# Altium integrated library NSC ADC.IntLib: 493 symbols (part 14 of 17)
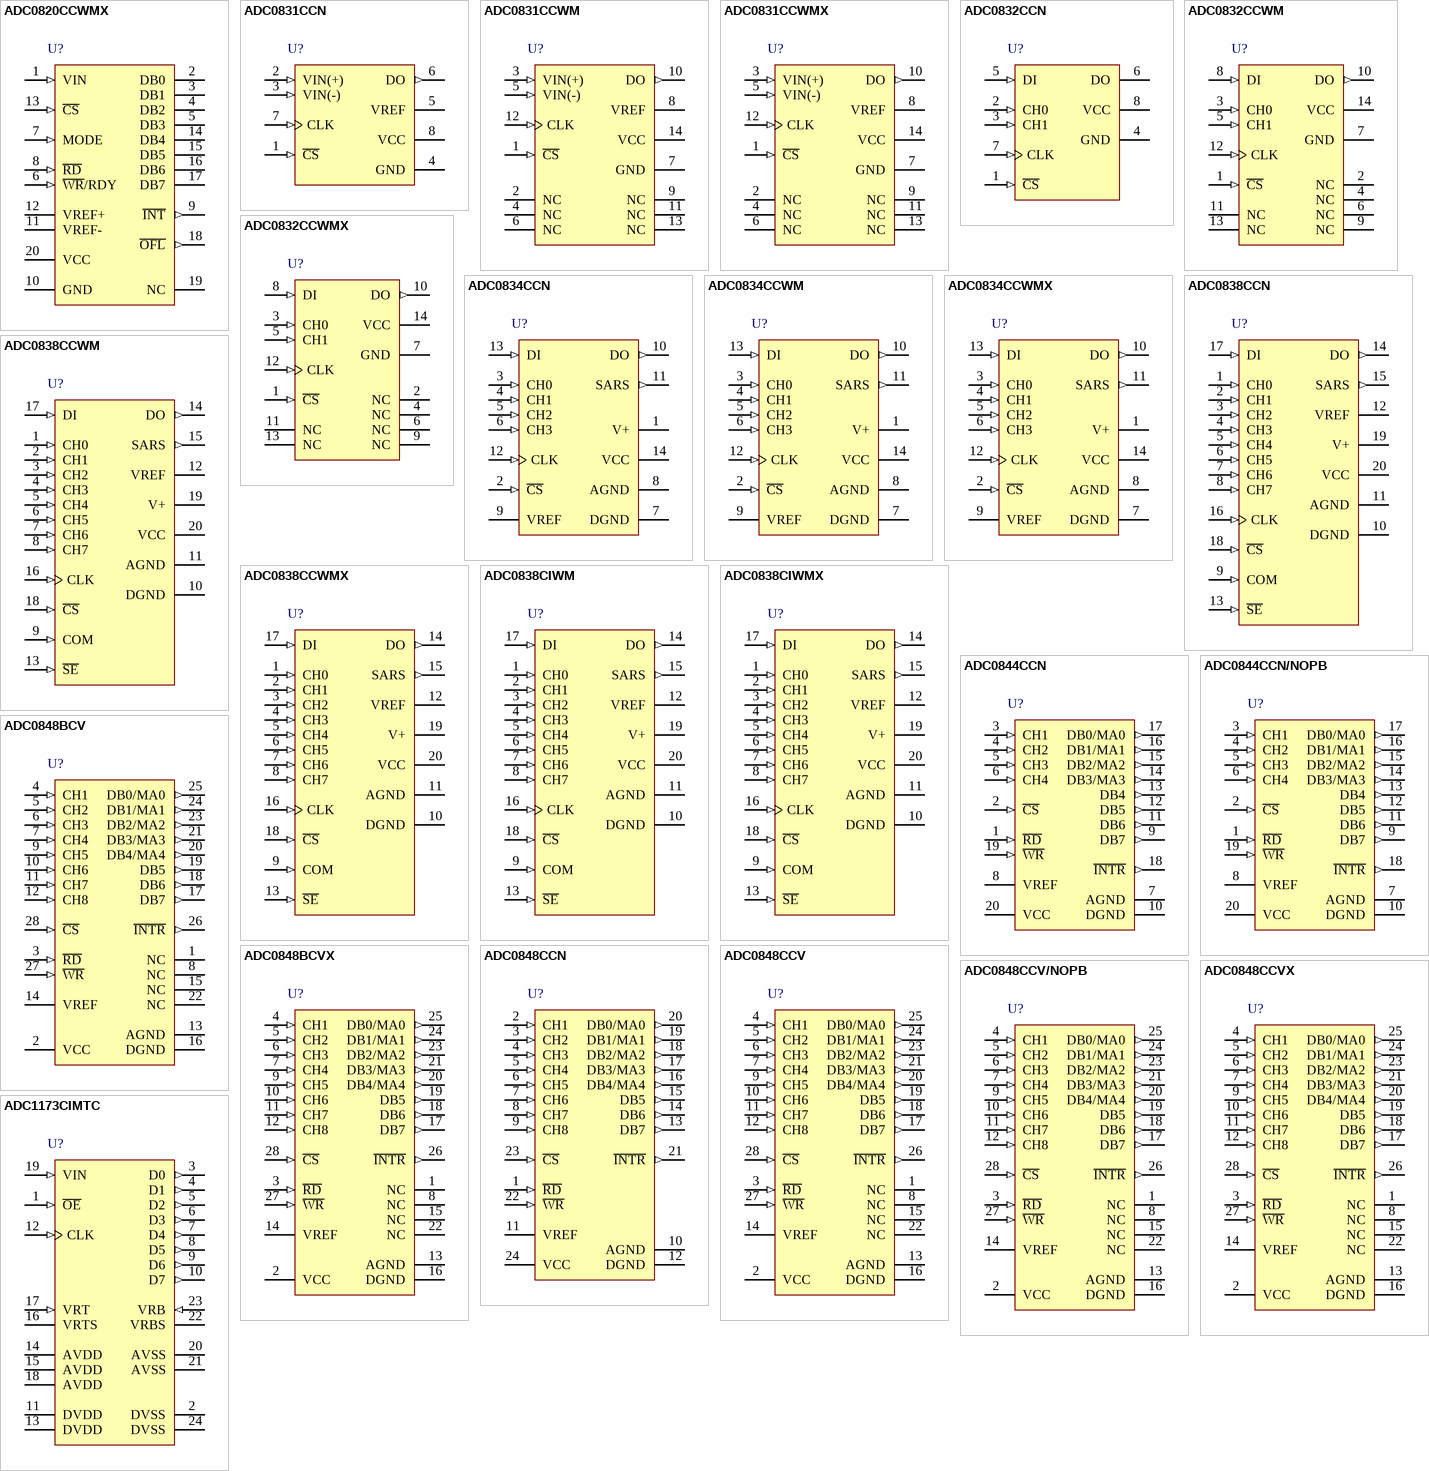
[diagram p49: symbols ADC0820CCWMX to ADC1173CIMTC]

## ADC0832CCWMX
designator U?
8-Bit Serial I/O A/D Converter with Multiplexer Option, 14-pin Wide SOIC; PartNumber: ADC0832CCWMX; Manufacturer: National Semiconductor; PackageTopMarking: NSUZXYTTE#*ADC0832*CCWM; PowerWise: N; CompType: ADC IC; Published: 1-Mar-2010; DatasheetVersion: Aug-1994; PackageVersion: revD, Feb-1987; PackageReference: M14B; Publisher: Altium Limited; PackageDescription: Molded Package, S.O., .300in Wide, 14 Lead; RoHS: N; PinCount: 14; Code_JEDEC: MS-013-AF; Code_IPC: SOIC127P1030-14; ComponentLink1Description: ADC0832 Datasheet; ComponentLink1URL: http://www.national.com/ds/AD/ADC0832.pdf; ComponentLink2Description: ADC0832 Web Page; ComponentLink2URL: http://www.national.com/pf/AD/ADC0832.html; ComponentLink3Description: M14B Package Page; ComponentLink3URL: http://www.national.com/packaging/folders/m14b.html
footprint M14B_N (SOIC, 14-Leads, Body 9x7.5mm, Pitch 1.27mm, IPC Medium Density)
footprint M14B_L (SOIC, 14-Leads, Body 9x7.5mm, Pitch 1.27mm, IPC High Density)
footprint M14B_M (SOIC, 14-Leads, Body 9x7.5mm, Pitch 1.27mm, IPC Low Density)
pins: 1 ~{CS} (in), 2 NC, 3 CH0 (in), 4 NC, 5 CH1 (in), 6 NC, 7 GND (power), 8 DI (in), 9 NC, 10 DO (out), 11 NC, 12 CLK (in), 13 NC, 14 VCC (power)

## ADC0834CCN
designator U?
8-Bit Serial I/O A/D Converter with Multiplexer Option, 14-pin MDIP; PartNumber: ADC0834CCN; Manufacturer: National Semiconductor; PackageTopMarking: NSUZXYYTTE#*ADC0834CCN; PowerWise: N; CompType: ADC IC; Published: 4-Dec-2008; DatasheetVersion: Sep-1992; PackageVersion: revG, May-2006; PackageReference: N14A; Publisher: Altium Limited; PackageDescription: MDIP, .750 x .250 x.130in, 14 Lead, .100in Pitch; RoHS: N; PinCount: 14; Code_JEDEC: MS-001-AA; ComponentLink1Description: ADC0834 Datasheet; ComponentLink1URL: http://www.national.com/ds/AD/ADC0834.pdf; ComponentLink2Description: ADC0834 Web Page; ComponentLink2URL: http://www.national.com/pf/AD/ADC0834.html; ComponentLink3Description: N14A Package Page; ComponentLink3URL: http://www.national.com/packaging/folders/n14a.html
footprint N14A (DIP, 14-Leads, Row Spacing 7.62mm, Pitch 2.54mm, Body 19.56x6.35mm)
pins: 1 V+ (power), 2 ~{CS} (in), 3 CH0 (in), 4 CH1 (in), 5 CH2 (in), 6 CH3 (in), 7 DGND (power), 8 AGND (power), 9 VREF (power), 10 DO (out), 11 SARS (out), 12 CLK (in), 13 DI (in), 14 VCC (power)

## ADC0834CCWM
designator U?
8-Bit Serial I/O A/D Converter with Multiplexer Option, 14-pin Wide SOIC; PartNumber: ADC0834CCWM; Manufacturer: National Semiconductor; PackageTopMarking: NSUZXYTTE#*ADC0834*CCWM; PowerWise: N; CompType: ADC IC; Published: 4-Dec-2008; DatasheetVersion: Sep-1992; PackageVersion: revD, Feb-1987; PackageReference: M14B; Publisher: Altium Limited; PackageDescription: Molded Package, S.O., .300in Wide, 14 Lead; RoHS: N; PinCount: 14; Code_JEDEC: MS-013-AF; Code_IPC: SOIC127P1030-14; ComponentLink1Description: ADC0834 Datasheet; ComponentLink1URL: http://www.national.com/ds/AD/ADC0834.pdf; ComponentLink2Description: ADC0834 Web Page; ComponentLink2URL: http://www.national.com/pf/AD/ADC0834.html; ComponentLink3Description: M14B Package Page; ComponentLink3URL: http://www.national.com/packaging/folders/m14b.html
footprint M14B_N (SOIC, 14-Leads, Body 9x7.5mm, Pitch 1.27mm, IPC Medium Density)
footprint M14B_L (SOIC, 14-Leads, Body 9x7.5mm, Pitch 1.27mm, IPC High Density)
footprint M14B_M (SOIC, 14-Leads, Body 9x7.5mm, Pitch 1.27mm, IPC Low Density)
pins: 1 V+ (power), 2 ~{CS} (in), 3 CH0 (in), 4 CH1 (in), 5 CH2 (in), 6 CH3 (in), 7 DGND (power), 8 AGND (power), 9 VREF (power), 10 DO (out), 11 SARS (out), 12 CLK (in), 13 DI (in), 14 VCC (power)

## ADC0834CCWMX
designator U?
8-Bit Serial I/O A/D Converter with Multiplexer Option, 14-pin Wide SOIC; PartNumber: ADC0834CCWMX; Manufacturer: National Semiconductor; PackageTopMarking: NSUZXYTTE#*ADC0834*CCWM; PowerWise: N; CompType: ADC IC; Published: 1-Mar-2010; DatasheetVersion: Sep-1992; PackageVersion: revD, Feb-1987; PackageReference: M14B; Publisher: Altium Limited; PackageDescription: Molded Package, S.O., .300in Wide, 14 Lead; RoHS: N; PinCount: 14; Code_JEDEC: MS-013-AF; Code_IPC: SOIC127P1030-14; ComponentLink1Description: ADC0834 Datasheet; ComponentLink1URL: http://www.national.com/ds/AD/ADC0834.pdf; ComponentLink2Description: ADC0834 Web Page; ComponentLink2URL: http://www.national.com/pf/AD/ADC0834.html; ComponentLink3Description: M14B Package Page; ComponentLink3URL: http://www.national.com/packaging/folders/m14b.html
footprint M14B_N (SOIC, 14-Leads, Body 9x7.5mm, Pitch 1.27mm, IPC Medium Density)
footprint M14B_L (SOIC, 14-Leads, Body 9x7.5mm, Pitch 1.27mm, IPC High Density)
footprint M14B_M (SOIC, 14-Leads, Body 9x7.5mm, Pitch 1.27mm, IPC Low Density)
pins: 1 V+ (power), 2 ~{CS} (in), 3 CH0 (in), 4 CH1 (in), 5 CH2 (in), 6 CH3 (in), 7 DGND (power), 8 AGND (power), 9 VREF (power), 10 DO (out), 11 SARS (out), 12 CLK (in), 13 DI (in), 14 VCC (power)

## ADC0838CCN
designator U?
8-Bit Serial I/O A/D Converter with Multiplexer Option, 20-pin MDIP; PartNumber: ADC0838CCN; Manufacturer: National Semiconductor; PackageTopMarking: NSUZXYYTTE#*ADC0838CCN; PowerWise: N; CompType: ADC IC; Published: 4-Dec-2008; DatasheetVersion: Sep-1992; PackageVersion: revG, Nov-1984; PackageReference: N20A; Publisher: Altium Limited; PackageDescription: Molded Dip (N) 20 Lead; Supplier 1: Farnell; Supplier Part Number 1: 9486615; RoHS: N; PinCount: 20; Code_JEDEC: MS-001-AD; ComponentLink1Description: ADC0838 Datasheet; ComponentLink1URL: http://www.national.com/ds/AD/ADC0838.pdf; ComponentLink2Description: ADC0838 Web Page; ComponentLink2URL: http://www.national.com/pf/AD/ADC0838.html; ComponentLink3Description: N20A Package Page; ComponentLink3URL: http://www.national.com/packaging/folders/n20a.html
footprint N20A (DIP, 20-Leads, Row Spacing 7.62mm, Pitch 2.54mm, Body 26.07x6.6mm)
pins: 1 CH0 (in), 2 CH1 (in), 3 CH2 (in), 4 CH3 (in), 5 CH4 (in), 6 CH5 (in), 7 CH6 (in), 8 CH7 (in), 9 COM (in), 10 DGND (power), 11 AGND (power), 12 VREF (power), 13 ~{SE} (in), 14 DO (out), 15 SARS (out), 16 CLK (in), 17 DI (in), 18 ~{CS} (in), 19 V+ (power), 20 VCC (power)

## ADC0838CCWM
designator U?
8-Bit Serial I/O A/D Converter with Multiplexer Option, 20-pin Wide SOIC; PartNumber: ADC0838CCWM; Manufacturer: National Semiconductor; PackageTopMarking: NSUZXYTTE#*ADC0838*CCWM; PowerWise: N; CompType: ADC IC; Published: 4-Dec-2008; DatasheetVersion: Sep-1992; PackageVersion: revG, Jan-1996; PackageReference: M20B; Publisher: Altium Limited; PackageDescription: Molded Package, S0, .300in Wide, 20 Lead; RoHS: N; PinCount: 20; Code_JEDEC: MS-013-AC; Code_IPC: SOIC127P1030-20; ComponentLink1Description: ADC0838 Datasheet; ComponentLink1URL: http://www.national.com/ds/AD/ADC0838.pdf; ComponentLink2Description: ADC0838 Web Page; ComponentLink2URL: http://www.national.com/pf/AD/ADC0838.html; ComponentLink3Description: M20B Package Page; ComponentLink3URL: http://www.national.com/packaging/folders/m20b.html
footprint M20B_N (SOIC, 20-Leads, Body 12.8x7.5mm, Pitch 1.27mm, IPC Medium Density)
footprint M20B_L (SOIC, 20-Leads, Body 12.8x7.5mm, Pitch 1.27mm, IPC High Density)
footprint M20B_M (SOIC, 20-Leads, Body 12.8x7.5mm, Pitch 1.27mm, IPC Low Density)
pins: 1 CH0 (in), 2 CH1 (in), 3 CH2 (in), 4 CH3 (in), 5 CH4 (in), 6 CH5 (in), 7 CH6 (in), 8 CH7 (in), 9 COM (in), 10 DGND (power), 11 AGND (power), 12 VREF (power), 13 ~{SE} (in), 14 DO (out), 15 SARS (out), 16 CLK (in), 17 DI (in), 18 ~{CS} (in), 19 V+ (power), 20 VCC (power)

## ADC0838CCWMX
designator U?
8-Bit Serial I/O A/D Converter with Multiplexer Option, 20-pin Wide SOIC; PartNumber: ADC0838CCWMX; Manufacturer: National Semiconductor; PackageTopMarking: NSUZXYTTE#*ADC0838*CCWM; PowerWise: N; CompType: ADC IC; Published: 1-Mar-2010; DatasheetVersion: Sep-1992; PackageVersion: revG, Jan-1996; PackageReference: M20B; Publisher: Altium Limited; PackageDescription: Molded Package, S0, .300in Wide, 20 Lead; RoHS: N; PinCount: 20; Code_JEDEC: MS-013-AC; Code_IPC: SOIC127P1030-20; ComponentLink1Description: ADC0838 Datasheet; ComponentLink1URL: http://www.national.com/ds/AD/ADC0838.pdf; ComponentLink2Description: ADC0838 Web Page; ComponentLink2URL: http://www.national.com/pf/AD/ADC0838.html; ComponentLink3Description: M20B Package Page; ComponentLink3URL: http://www.national.com/packaging/folders/m20b.html
footprint M20B_N (SOIC, 20-Leads, Body 12.8x7.5mm, Pitch 1.27mm, IPC Medium Density)
footprint M20B_L (SOIC, 20-Leads, Body 12.8x7.5mm, Pitch 1.27mm, IPC High Density)
footprint M20B_M (SOIC, 20-Leads, Body 12.8x7.5mm, Pitch 1.27mm, IPC Low Density)
pins: 1 CH0 (in), 2 CH1 (in), 3 CH2 (in), 4 CH3 (in), 5 CH4 (in), 6 CH5 (in), 7 CH6 (in), 8 CH7 (in), 9 COM (in), 10 DGND (power), 11 AGND (power), 12 VREF (power), 13 ~{SE} (in), 14 DO (out), 15 SARS (out), 16 CLK (in), 17 DI (in), 18 ~{CS} (in), 19 V+ (power), 20 VCC (power)

## ADC0838CIWM
designator U?
8-Bit Serial I/O A/D Converter with Multiplexer Option, 20-pin Wide SOIC; PartNumber: ADC0838CIWM; Manufacturer: National Semiconductor; PackageTopMarking: NSUZXYTTE#*ADC0838*CIWM; PowerWise: N; CompType: ADC IC; Published: 4-Dec-2008; DatasheetVersion: Jan-1994; PackageVersion: revG, Jan-1996; PackageReference: M20B; Publisher: Altium Limited; PackageDescription: Molded Package, S0, .300in Wide, 20 Lead; RoHS: N; PinCount: 20; Code_JEDEC: MS-013-AC; Code_IPC: SOIC127P1030-20; ComponentLink1Description: ADC0838 Datasheet; ComponentLink1URL: http://www.national.com/ds/AD/ADC0838.pdf; ComponentLink2Description: ADC0838 Web Page; ComponentLink2URL: http://www.national.com/pf/AD/ADC0838.html; ComponentLink3Description: M20B Package Page; ComponentLink3URL: http://www.national.com/packaging/folders/m20b.html
footprint M20B_N (SOIC, 20-Leads, Body 12.8x7.5mm, Pitch 1.27mm, IPC Medium Density)
footprint M20B_L (SOIC, 20-Leads, Body 12.8x7.5mm, Pitch 1.27mm, IPC High Density)
footprint M20B_M (SOIC, 20-Leads, Body 12.8x7.5mm, Pitch 1.27mm, IPC Low Density)
pins: 1 CH0 (in), 2 CH1 (in), 3 CH2 (in), 4 CH3 (in), 5 CH4 (in), 6 CH5 (in), 7 CH6 (in), 8 CH7 (in), 9 COM (in), 10 DGND (power), 11 AGND (power), 12 VREF (power), 13 ~{SE} (in), 14 DO (out), 15 SARS (out), 16 CLK (in), 17 DI (in), 18 ~{CS} (in), 19 V+ (power), 20 VCC (power)

## ADC0838CIWMX
designator U?
8-Bit Serial I/O A/D Converter with Multiplexer Option, 20-pin Wide SOIC; PartNumber: ADC0838CIWMX; Manufacturer: National Semiconductor; PackageTopMarking: NSUZXYTTE#*ADC0838*CIWM; PowerWise: N; CompType: ADC IC; Published: 1-Mar-2010; DatasheetVersion: Jan-1994; PackageVersion: revG, Jan-1996; PackageReference: M20B; Publisher: Altium Limited; PackageDescription: Molded Package, S0, .300in Wide, 20 Lead; RoHS: N; PinCount: 20; Code_JEDEC: MS-013-AC; Code_IPC: SOIC127P1030-20; ComponentLink1Description: ADC0838 Datasheet; ComponentLink1URL: http://www.national.com/ds/AD/ADC0838.pdf; ComponentLink2Description: ADC0838 Web Page; ComponentLink2URL: http://www.national.com/pf/AD/ADC0838.html; ComponentLink3Description: M20B Package Page; ComponentLink3URL: http://www.national.com/packaging/folders/m20b.html
footprint M20B_N (SOIC, 20-Leads, Body 12.8x7.5mm, Pitch 1.27mm, IPC Medium Density)
footprint M20B_L (SOIC, 20-Leads, Body 12.8x7.5mm, Pitch 1.27mm, IPC High Density)
footprint M20B_M (SOIC, 20-Leads, Body 12.8x7.5mm, Pitch 1.27mm, IPC Low Density)
pins: 1 CH0 (in), 2 CH1 (in), 3 CH2 (in), 4 CH3 (in), 5 CH4 (in), 6 CH5 (in), 7 CH6 (in), 8 CH7 (in), 9 COM (in), 10 DGND (power), 11 AGND (power), 12 VREF (power), 13 ~{SE} (in), 14 DO (out), 15 SARS (out), 16 CLK (in), 17 DI (in), 18 ~{CS} (in), 19 V+ (power), 20 VCC (power)

## ADC0844CCN
designator U?
8-Bit Microprocessor Compatible A/D Converter with Multiplexer Option, 20-pin MDIP; PartNumber: ADC0844CCN; Manufacturer: National Semiconductor; PackageTopMarking: NSUZXYYTTE#*ADC0844CCN; PowerWise: N; CompType: ADC IC; Published: 4-Dec-2008; DatasheetVersion: Mar-2006; PackageVersion: revG, Nov-1984; PackageReference: N20A; Publisher: Altium Limited; PackageDescription: Molded Dip (N) 20 Lead; Supplier 1: Farnell; Supplier Part Number 1: 9486623; RoHS: N; PinCount: 20; Code_JEDEC: MS-001-AD; ComponentLink1Description: ADC0844 Datasheet; ComponentLink1URL: http://www.national.com/ds/AD/ADC0844.pdf; ComponentLink2Description: ADC0844 Web Page; ComponentLink2URL: http://www.national.com/pf/AD/ADC0844.html; ComponentLink3Description: N20A Package Page; ComponentLink3URL: http://www.national.com/packaging/folders/n20a.html
footprint N20A (DIP, 20-Leads, Row Spacing 7.62mm, Pitch 2.54mm, Body 26.07x6.6mm)
pins: 1 ~{RD} (in), 2 ~{CS} (in), 3 CH1 (in), 4 CH2 (in), 5 CH3 (in), 6 CH4 (in), 7 AGND (power), 8 VREF (power), 9 DB7 (out), 10 DGND (power), 11 DB6 (out), 12 DB5 (out), 13 DB4 (out), 14 DB3/MA3 (out), 15 DB2/MA2 (out), 16 DB1/MA1 (out), 17 DB0/MA0 (out), 18 ~{INTR} (out), 19 ~{WR} (in), 20 VCC (power)

## ADC0844CCN/NOPB
designator U?
8-Bit Microprocessor Compatible A/D Converter with Multiplexer Option, 20-pin MDIP, Pb-Free; PartNumber: ADC0844CCN/NOPB; Manufacturer: National Semiconductor; PackageTopMarking: NSUZXYYTTE#*ADC0844CCN; PowerWise: N; CompType: ADC IC; Published: 1-Mar-2010; DatasheetVersion: Mar-2006; PackageVersion: revG, Nov-1984; PackageReference: N20A; Publisher: Altium Limited; PackageDescription: Molded Dip (N) 20 Lead; Supplier 1: Digi-Key; Supplier Part Number 1: ADC0844CCN-ND; Supplier 2: Farnell; Supplier Part Number 2: 1311185; RoHS: Y; PinCount: 20; Code_JEDEC: MS-001-AD; ComponentLink1Description: ADC0844 Datasheet; ComponentLink1URL: http://www.national.com/ds/AD/ADC0844.pdf; ComponentLink2Description: ADC0844 Web Page; ComponentLink2URL: http://www.national.com/pf/AD/ADC0844.html; ComponentLink3Description: N20A Package Page; ComponentLink3URL: http://www.national.com/packaging/folders/n20a.html
footprint N20A (DIP, 20-Leads, Row Spacing 7.62mm, Pitch 2.54mm, Body 26.07x6.6mm)
pins: 1 ~{RD} (in), 2 ~{CS} (in), 3 CH1 (in), 4 CH2 (in), 5 CH3 (in), 6 CH4 (in), 7 AGND (power), 8 VREF (power), 9 DB7 (out), 10 DGND (power), 11 DB6 (out), 12 DB5 (out), 13 DB4 (out), 14 DB3/MA3 (out), 15 DB2/MA2 (out), 16 DB1/MA1 (out), 17 DB0/MA0 (out), 18 ~{INTR} (out), 19 ~{WR} (in), 20 VCC (power)

## ADC0848BCV
designator U?
8-Bit Microprocessor Compatible A/D Converter with Multiplexer Option, 28-pin PLCC; PartNumber: ADC0848BCV; Manufacturer: National Semiconductor; PackageTopMarking: NSUZXYYTTE#*ADC0848*BCV; PowerWise: N; CompType: ADC IC; Published: 4-Dec-2008; DatasheetVersion: Dec-2008; PackageVersion: revK, Dec-1993; PackageReference: V28A; Publisher: Altium Limited; PackageDescription: Plastic Chip Carrier, Sq., .050in Pitch, 28 Lead; Supplier 1: Digi-Key; Supplier Part Number 1: ADC0848BCV-ND; Supplier 2: Farnell; Supplier Part Number 2: 949840; RoHS: N; PinCount: 28; Code_IPC: PLCC-28; ComponentLink1Description: ADC0848 Datasheet; ComponentLink1URL: http://www.national.com/ds/AD/ADC0848.pdf; ComponentLink2Description: ADC0848 Web Page; ComponentLink2URL: http://www.national.com/pf/AD/ADC0848.html; ComponentLink3Description: V28A Package Page; ComponentLink3URL: http://www.national.com/packaging/folders/v28a.html
footprint V28A_N (Leaded Chip Carrier, 28-Leads, Body 11.5x11.5mm, Pitch 1.27mm, IPC Medium Density)
footprint V28A_L (Leaded Chip Carrier, 28-Leads, Body 11.5x11.5mm, Pitch 1.27mm, IPC High Density)
footprint V28A_M (Leaded Chip Carrier, 28-Leads, Body 11.5x11.5mm, Pitch 1.27mm, IPC Low Density)
pins: 1 NC, 2 VCC (power), 3 ~{RD} (in), 4 CH1 (in), 5 CH2 (in), 6 CH3 (in), 7 CH4 (in), 8 NC, 9 CH5 (in), 10 CH6 (in), 11 CH7 (in), 12 CH8 (in), 13 AGND (power), 14 VREF (power), 15 NC, 16 DGND (power), 17 DB7 (out), 18 DB6 (out), 19 DB5 (out), 20 DB4/MA4 (out), 21 DB3/MA3 (out), 22 NC, 23 DB2/MA2 (out), 24 DB1/MA1 (out), 25 DB0/MA0 (out), 26 ~{INTR} (out), 27 ~{WR} (in), 28 ~{CS} (in)

## ADC0848BCVX
designator U?
8-Bit Microprocessor Compatible A/D Converter with Multiplexer Option, 28-pin PLCC; PartNumber: ADC0848BCVX; Manufacturer: National Semiconductor; PackageTopMarking: NSUZXYYTTE#*ADC0848*BCV; PowerWise: N; CompType: ADC IC; Published: 1-Mar-2010; DatasheetVersion: Dec-2008; PackageVersion: revK, Dec-1993; PackageReference: V28A; Publisher: Altium Limited; PackageDescription: Plastic Chip Carrier, Sq., .050in Pitch, 28 Lead; Supplier 1: Digi-Key; Supplier Part Number 1: ADC0848BCVX-ND; RoHS: N; PinCount: 28; Code_IPC: PLCC-28; ComponentLink1Description: ADC0848 Datasheet; ComponentLink1URL: http://www.national.com/ds/AD/ADC0848.pdf; ComponentLink2Description: ADC0848 Web Page; ComponentLink2URL: http://www.national.com/pf/AD/ADC0848.html; ComponentLink3Description: V28A Package Page; ComponentLink3URL: http://www.national.com/packaging/folders/v28a.html
footprint V28A_N (Leaded Chip Carrier, 28-Leads, Body 11.5x11.5mm, Pitch 1.27mm, IPC Medium Density)
footprint V28A_L (Leaded Chip Carrier, 28-Leads, Body 11.5x11.5mm, Pitch 1.27mm, IPC High Density)
footprint V28A_M (Leaded Chip Carrier, 28-Leads, Body 11.5x11.5mm, Pitch 1.27mm, IPC Low Density)
pins: 1 NC, 2 VCC (power), 3 ~{RD} (in), 4 CH1 (in), 5 CH2 (in), 6 CH3 (in), 7 CH4 (in), 8 NC, 9 CH5 (in), 10 CH6 (in), 11 CH7 (in), 12 CH8 (in), 13 AGND (power), 14 VREF (power), 15 NC, 16 DGND (power), 17 DB7 (out), 18 DB6 (out), 19 DB5 (out), 20 DB4/MA4 (out), 21 DB3/MA3 (out), 22 NC, 23 DB2/MA2 (out), 24 DB1/MA1 (out), 25 DB0/MA0 (out), 26 ~{INTR} (out), 27 ~{WR} (in), 28 ~{CS} (in)

## ADC0848CCN
designator U?
8-Bit Microprocessor Compatible A/D Converter with Multiplexer Option, 24-pin MDIP; PartNumber: ADC0848CCN; Manufacturer: National Semiconductor; PackageTopMarking: NSUZXYYTTE#*ADC0848CCN; PowerWise: N; CompType: ADC IC; Published: 4-Dec-2008; LatestRevisionDate: 13-Jan-2009; LatestRevisionNote: Package N24D replaced N24C.; DatasheetVersion: Dec-2008; PackageVersion: revB, Feb-1989; PackageReference: N24D; Publisher: Altium Limited; PackageDescription: Molded Dip (N), 24 Lead, .300in, Subcontractor Package; Supplier 1: Farnell; Supplier Part Number 1: 9486631; RoHS: N; PinCount: 24; Code_JEDEC: MS-001-AF; ComponentLink1Description: ADC0848 Datasheet; ComponentLink1URL: http://www.national.com/ds/AD/ADC0848.pdf; ComponentLink2Description: ADC0848 Web Page; ComponentLink2URL: http://www.national.com/pf/AD/ADC0848.html; ComponentLink3Description: N24D Package Page; ComponentLink3URL: http://www.national.com/packaging/folders/n24d.html
footprint N24D (DIP, 24-Leads, Row Spacing 7.62mm, Pitch 2.54mm, Body 32x6.6mm)
pins: 1 ~{RD} (in), 2 CH1 (in), 3 CH2 (in), 4 CH3 (in), 5 CH4 (in), 6 CH5 (in), 7 CH6 (in), 8 CH7 (in), 9 CH8 (in), 10 AGND (power), 11 VREF (power), 12 DGND (power), 13 DB7 (out), 14 DB6 (out), 15 DB5 (out), 16 DB4/MA4 (out), 17 DB3/MA3 (out), 18 DB2/MA2 (out), 19 DB1/MA1 (out), 20 DB0/MA0 (out), 21 ~{INTR} (out), 22 ~{WR} (in), 23 ~{CS} (in), 24 VCC (power)

## ADC0848CCV
designator U?
8-Bit Microprocessor Compatible A/D Converter with Multiplexer Option, 28-pin PLCC; PartNumber: ADC0848CCV; Manufacturer: National Semiconductor; PackageTopMarking: NSUZXYYTTE#*ADC0848*CCV; PowerWise: N; CompType: ADC IC; Published: 4-Dec-2008; DatasheetVersion: Dec-2008; PackageVersion: revK, Dec-1993; PackageReference: V28A; Publisher: Altium Limited; PackageDescription: Plastic Chip Carrier, Sq., .050in Pitch, 28 Lead; Supplier 1: Farnell; Supplier Part Number 1: 9494308; RoHS: N; PinCount: 28; Code_IPC: PLCC-28; ComponentLink1Description: ADC0848 Datasheet; ComponentLink1URL: http://www.national.com/ds/AD/ADC0848.pdf; ComponentLink2Description: ADC0848 Web Page; ComponentLink2URL: http://www.national.com/pf/AD/ADC0848.html; ComponentLink3Description: V28A Package Page; ComponentLink3URL: http://www.national.com/packaging/folders/v28a.html
footprint V28A_N (Leaded Chip Carrier, 28-Leads, Body 11.5x11.5mm, Pitch 1.27mm, IPC Medium Density)
footprint V28A_L (Leaded Chip Carrier, 28-Leads, Body 11.5x11.5mm, Pitch 1.27mm, IPC High Density)
footprint V28A_M (Leaded Chip Carrier, 28-Leads, Body 11.5x11.5mm, Pitch 1.27mm, IPC Low Density)
pins: 1 NC, 2 VCC (power), 3 ~{RD} (in), 4 CH1 (in), 5 CH2 (in), 6 CH3 (in), 7 CH4 (in), 8 NC, 9 CH5 (in), 10 CH6 (in), 11 CH7 (in), 12 CH8 (in), 13 AGND (power), 14 VREF (power), 15 NC, 16 DGND (power), 17 DB7 (out), 18 DB6 (out), 19 DB5 (out), 20 DB4/MA4 (out), 21 DB3/MA3 (out), 22 NC, 23 DB2/MA2 (out), 24 DB1/MA1 (out), 25 DB0/MA0 (out), 26 ~{INTR} (out), 27 ~{WR} (in), 28 ~{CS} (in)

## ADC0848CCV/NOPB
designator U?
8-Bit Microprocessor Compatible A/D Converter with Multiplexer Option, 28-pin PLCC, Pb-Free; PartNumber: ADC0848CCV/NOPB; Manufacturer: National Semiconductor; PackageTopMarking: NSUZXYYTTE#*ADC0848*CCV; PowerWise: N; CompType: ADC IC; Published: 1-Mar-2010; DatasheetVersion: Dec-2008; PackageVersion: revK, Dec-1993; PackageReference: V28A; Publisher: Altium Limited; PackageDescription: Plastic Chip Carrier, Sq., .050in Pitch, 28 Lead; Supplier 1: Digi-Key; Supplier Part Number 1: ADC0848CCV-ND; RoHS: Y; PinCount: 28; Code_IPC: PLCC-28; ComponentLink1Description: ADC0848 Datasheet; ComponentLink1URL: http://www.national.com/ds/AD/ADC0848.pdf; ComponentLink2Description: ADC0848 Web Page; ComponentLink2URL: http://www.national.com/pf/AD/ADC0848.html; ComponentLink3Description: V28A Package Page; ComponentLink3URL: http://www.national.com/packaging/folders/v28a.html
footprint V28A_N (Leaded Chip Carrier, 28-Leads, Body 11.5x11.5mm, Pitch 1.27mm, IPC Medium Density)
footprint V28A_L (Leaded Chip Carrier, 28-Leads, Body 11.5x11.5mm, Pitch 1.27mm, IPC High Density)
footprint V28A_M (Leaded Chip Carrier, 28-Leads, Body 11.5x11.5mm, Pitch 1.27mm, IPC Low Density)
pins: 1 NC, 2 VCC (power), 3 ~{RD} (in), 4 CH1 (in), 5 CH2 (in), 6 CH3 (in), 7 CH4 (in), 8 NC, 9 CH5 (in), 10 CH6 (in), 11 CH7 (in), 12 CH8 (in), 13 AGND (power), 14 VREF (power), 15 NC, 16 DGND (power), 17 DB7 (out), 18 DB6 (out), 19 DB5 (out), 20 DB4/MA4 (out), 21 DB3/MA3 (out), 22 NC, 23 DB2/MA2 (out), 24 DB1/MA1 (out), 25 DB0/MA0 (out), 26 ~{INTR} (out), 27 ~{WR} (in), 28 ~{CS} (in)

## ADC0848CCVX
designator U?
8-Bit Microprocessor Compatible A/D Converter with Multiplexer Option, 28-pin PLCC; PartNumber: ADC0848CCVX; Manufacturer: National Semiconductor; PackageTopMarking: NSUZXYYTTE#*ADC0848*CCV; PowerWise: N; CompType: ADC IC; Published: 1-Mar-2010; DatasheetVersion: Dec-2008; PackageVersion: revK, Dec-1993; PackageReference: V28A; Publisher: Altium Limited; PackageDescription: Plastic Chip Carrier, Sq., .050in Pitch, 28 Lead; RoHS: N; PinCount: 28; Code_IPC: PLCC-28; ComponentLink1Description: ADC0848 Datasheet; ComponentLink1URL: http://www.national.com/ds/AD/ADC0848.pdf; ComponentLink2Description: ADC0848 Web Page; ComponentLink2URL: http://www.national.com/pf/AD/ADC0848.html; ComponentLink3Description: V28A Package Page; ComponentLink3URL: http://www.national.com/packaging/folders/v28a.html
footprint V28A_N (Leaded Chip Carrier, 28-Leads, Body 11.5x11.5mm, Pitch 1.27mm, IPC Medium Density)
footprint V28A_L (Leaded Chip Carrier, 28-Leads, Body 11.5x11.5mm, Pitch 1.27mm, IPC High Density)
footprint V28A_M (Leaded Chip Carrier, 28-Leads, Body 11.5x11.5mm, Pitch 1.27mm, IPC Low Density)
pins: 1 NC, 2 VCC (power), 3 ~{RD} (in), 4 CH1 (in), 5 CH2 (in), 6 CH3 (in), 7 CH4 (in), 8 NC, 9 CH5 (in), 10 CH6 (in), 11 CH7 (in), 12 CH8 (in), 13 AGND (power), 14 VREF (power), 15 NC, 16 DGND (power), 17 DB7 (out), 18 DB6 (out), 19 DB5 (out), 20 DB4/MA4 (out), 21 DB3/MA3 (out), 22 NC, 23 DB2/MA2 (out), 24 DB1/MA1 (out), 25 DB0/MA0 (out), 26 ~{INTR} (out), 27 ~{WR} (in), 28 ~{CS} (in)

## ADC1173CIMTC
designator U?
8-Bit, 3-Volt, 15 MSPS, 33mW A/D Converter, 24-pin TSSOP; PartNumber: ADC1173CIMTC; Manufacturer: National Semiconductor; PackageTopMarking: NSUZXYTTE#*ADC1173*CIMTC; PowerWise: N; CompType: ADC IC; Published: 4-Dec-2008; DatasheetVersion: Jun-1998; PackageVersion: revE, Mar-2003; PackageReference: MTC24; Publisher: Altium Limited; PackageDescription: Molded TSSOP, Jedec, 7.8 x 4.4 x 0.9mm Body, 24 Lead, 0.65mm Pitch; Supplier 1: Farnell; Supplier Part Number 1: 9778179; RoHS: N; PinCount: 24; Code_JEDEC: MO-153-AD; ComponentLink1Description: ADC1173 Datasheet; ComponentLink1URL: http://www.national.com/ds/AD/ADC1173.pdf; ComponentLink2Description: ADC1173 Web Page; ComponentLink2URL: http://www.national.com/pf/AD/ADC1173.html; ComponentLink3Description: MTC24 Package Page; ComponentLink3URL: http://www.national.com/packaging/folders/mtc24.html
footprint MTC24_N (TSOP, 24-Leads, Body 7.8x4.4mm, Pitch 0.65mm, IPC Medium Density)
footprint MTC24_L (TSOP, 24-Leads, Body 7.8x4.4mm, Pitch 0.65mm, IPC High Density)
footprint MTC24_M (TSOP, 24-Leads, Body 7.8x4.4mm, Pitch 0.65mm, IPC Low Density)
pins: 1 ~{OE} (in), 2 DVSS (power), 3 D0 (out), 4 D1 (out), 5 D2 (out), 6 D3 (out), 7 D4 (out), 8 D5 (out), 9 D6 (out), 10 D7 (out), 11 DVDD (power), 12 CLK (in), 13 DVDD (power), 14 AVDD (power), 15 AVDD (power), 16 VRTS, 17 VRT (in), 18 AVDD (power), 19 VIN (in), 20 AVSS (power), 21 AVSS (power), 22 VRBS, 23 VRB (in), 24 DVSS (power)

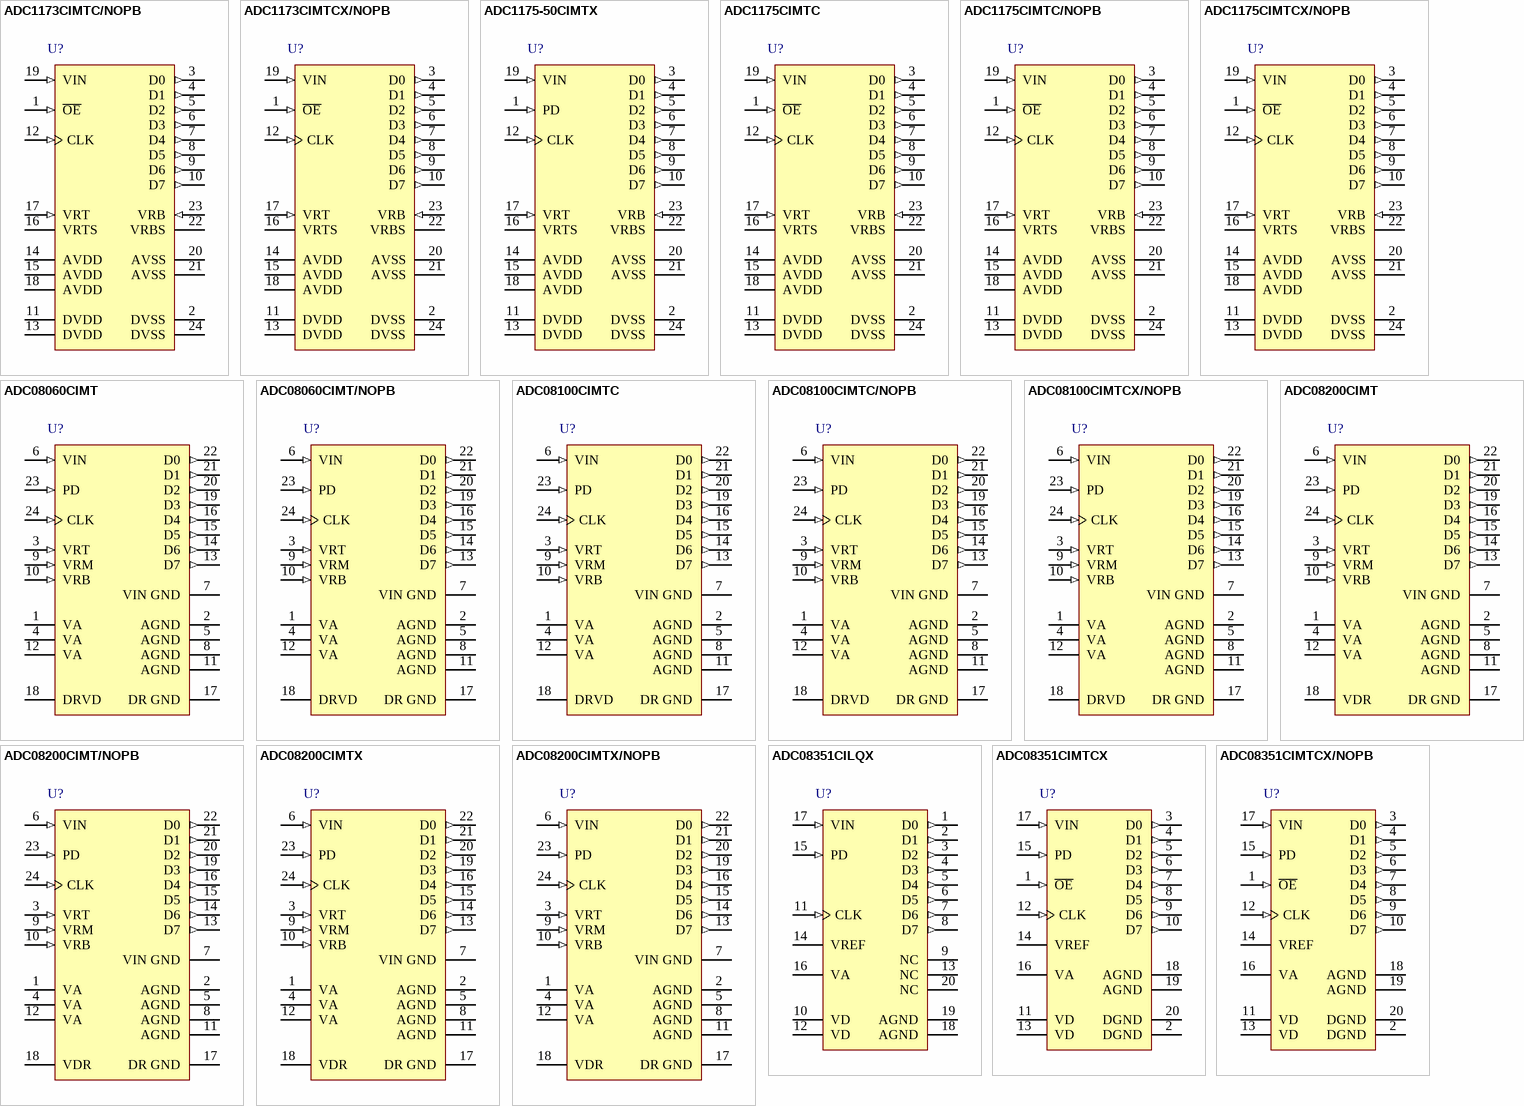
[diagram p30: symbols ADC1173CIMTC/NOPB to ADC08351CIMTCX/NOPB]

## ADC1173CIMTC/NOPB
designator U?
8-Bit, 3-Volt, 15MSPS, 33mW A/D Converter, 24-pin TSSOP, Pb-Free; PartNumber: ADC1173CIMTC/NOPB; Manufacturer: National Semiconductor; PackageTopMarking: NSUZXYTTE#*ADC1173*CIMTC; PowerWise: N; CompType: ADC IC; Published: 1-Mar-2010; DatasheetVersion: Jun-1998; PackageVersion: revE, Mar-2003; PackageReference: MTC24; Publisher: Altium Limited; PackageDescription: Molded TSSOP, Jedec, 7.8 x 4.4 x 0.9mm Body, 24 Lead, 0.65mm Pitch; Supplier 1: Digi-Key; Supplier Part Number 1: ADC1173CIMTC-ND; Supplier 2: Farnell; Supplier Part Number 2: 1496004; RoHS: Y; PinCount: 24; Code_JEDEC: MO-153-AD; ComponentLink1Description: ADC1173 Datasheet; ComponentLink1URL: http://www.national.com/ds/AD/ADC1173.pdf; ComponentLink2Description: ADC1173 Web Page; ComponentLink2URL: http://www.national.com/pf/AD/ADC1173.html; ComponentLink3Description: MTC24 Package Page; ComponentLink3URL: http://www.national.com/packaging/folders/mtc24.html
footprint MTC24_N (TSOP, 24-Leads, Body 7.8x4.4mm, Pitch 0.65mm, IPC Medium Density)
footprint MTC24_L (TSOP, 24-Leads, Body 7.8x4.4mm, Pitch 0.65mm, IPC High Density)
footprint MTC24_M (TSOP, 24-Leads, Body 7.8x4.4mm, Pitch 0.65mm, IPC Low Density)
pins: 1 ~{OE} (in), 2 DVSS (power), 3 D0 (out), 4 D1 (out), 5 D2 (out), 6 D3 (out), 7 D4 (out), 8 D5 (out), 9 D6 (out), 10 D7 (out), 11 DVDD (power), 12 CLK (in), 13 DVDD (power), 14 AVDD (power), 15 AVDD (power), 16 VRTS, 17 VRT (in), 18 AVDD (power), 19 VIN (in), 20 AVSS (power), 21 AVSS (power), 22 VRBS, 23 VRB (in), 24 DVSS (power)

## ADC1173CIMTCX/NOPB
designator U?
8-Bit, 3-Volt, 15MSPS, 33mW A/D Converter, 24-pin TSSOP, Pb-Free; PartNumber: ADC1173CIMTCX/NOPB; Manufacturer: National Semiconductor; PackageTopMarking: NSUZXYTTE#*ADC1173*CIMTC; PowerWise: N; CompType: ADC IC; Published: 1-Mar-2010; DatasheetVersion: Jun-1998; PackageVersion: revE, Mar-2003; PackageReference: MTC24; Publisher: Altium Limited; PackageDescription: Molded TSSOP, Jedec, 7.8 x 4.4 x 0.9mm Body, 24 Lead, 0.65mm Pitch; Supplier 1: Digi-Key; Supplier Part Number 1: ADC1173CIMTCX-ND; RoHS: Y; PinCount: 24; Code_JEDEC: MO-153-AD; ComponentLink1Description: ADC1173 Datasheet; ComponentLink1URL: http://www.national.com/ds/AD/ADC1173.pdf; ComponentLink2Description: ADC1173 Web Page; ComponentLink2URL: http://www.national.com/pf/AD/ADC1173.html; ComponentLink3Description: MTC24 Package Page; ComponentLink3URL: http://www.national.com/packaging/folders/mtc24.html
footprint MTC24_N (TSOP, 24-Leads, Body 7.8x4.4mm, Pitch 0.65mm, IPC Medium Density)
footprint MTC24_L (TSOP, 24-Leads, Body 7.8x4.4mm, Pitch 0.65mm, IPC High Density)
footprint MTC24_M (TSOP, 24-Leads, Body 7.8x4.4mm, Pitch 0.65mm, IPC Low Density)
pins: 1 ~{OE} (in), 2 DVSS (power), 3 D0 (out), 4 D1 (out), 5 D2 (out), 6 D3 (out), 7 D4 (out), 8 D5 (out), 9 D6 (out), 10 D7 (out), 11 DVDD (power), 12 CLK (in), 13 DVDD (power), 14 AVDD (power), 15 AVDD (power), 16 VRTS, 17 VRT (in), 18 AVDD (power), 19 VIN (in), 20 AVSS (power), 21 AVSS (power), 22 VRBS, 23 VRB (in), 24 DVSS (power)

## ADC1175-50CIMTX
designator U?
8-Bit, 50 MSPS, 125mW A/D Converter, 24-pin TSSOP; PartNumber: ADC1175-50CIMTX; Manufacturer: National Semiconductor; PackageTopMarking: NSUZXYTT*ADC1175-50*CIMT; PowerWise: N; CompType: ADC IC; Published: 1-Mar-2010; DatasheetVersion: Nov-1998; PackageVersion: revE, Mar-2003; PackageReference: MTC24; Publisher: Altium Limited; PackageDescription: Molded TSSOP, Jedec, 7.8 x 4.4 x 0.9mm Body, 24 Lead, 0.65mm Pitch; RoHS: N; PinCount: 24; Code_JEDEC: MO-153-AD; ComponentLink1Description: ADC1175-50 Datasheet; ComponentLink1URL: http://www.national.com/ds/AD/ADC1175-50.pdf; ComponentLink2Description: ADC1175-50 Web Page; ComponentLink2URL: http://www.national.com/pf/AD/ADC1175-50.html; ComponentLink3Description: MTC24 Package Page; ComponentLink3URL: http://www.national.com/packaging/folders/mtc24.html
footprint MTC24_N (TSOP, 24-Leads, Body 7.8x4.4mm, Pitch 0.65mm, IPC Medium Density)
footprint MTC24_L (TSOP, 24-Leads, Body 7.8x4.4mm, Pitch 0.65mm, IPC High Density)
footprint MTC24_M (TSOP, 24-Leads, Body 7.8x4.4mm, Pitch 0.65mm, IPC Low Density)
pins: 1 PD (in), 2 DVSS (power), 3 D0 (out), 4 D1 (out), 5 D2 (out), 6 D3 (out), 7 D4 (out), 8 D5 (out), 9 D6 (out), 10 D7 (out), 11 DVDD (power), 12 CLK (in), 13 DVDD (power), 14 AVDD (power), 15 AVDD (power), 16 VRTS (power), 17 VRT (in), 18 AVDD (power), 19 VIN (in), 20 AVSS (power), 21 AVSS (power), 22 VRBS (power), 23 VRB (in), 24 DVSS (power)

## ADC1175CIMTC
designator U?
8-Bit, 20MHz, 60mW A/D Converter, 24-pin TSSOP; PartNumber: ADC1175CIMTC; Manufacturer: National Semiconductor; PackageTopMarking: NSUZXYTTE#*ADC1175*CIMTC; PowerWise: N; CompType: ADC IC; Published: 4-Dec-2008; DatasheetVersion: Jul-2009; PackageVersion: revE, Mar-2003; PackageReference: MTC24; Publisher: Altium Limited; PackageDescription: Molded TSSOP, Jedec, 7.8 x 4.4 x 0.9mm Body, 24 Lead, 0.65mm Pitch; RoHS: N; PinCount: 24; Code_JEDEC: MO-153-AD; ComponentLink1Description: ADC1175 Datasheet; ComponentLink1URL: http://www.national.com/ds/AD/ADC1175.pdf; ComponentLink2Description: ADC1175 Web Page; ComponentLink2URL: http://www.national.com/pf/AD/ADC1175.html; ComponentLink3Description: MTC24 Package Page; ComponentLink3URL: http://www.national.com/packaging/folders/mtc24.html
footprint MTC24_N (TSOP, 24-Leads, Body 7.8x4.4mm, Pitch 0.65mm, IPC Medium Density)
footprint MTC24_L (TSOP, 24-Leads, Body 7.8x4.4mm, Pitch 0.65mm, IPC High Density)
footprint MTC24_M (TSOP, 24-Leads, Body 7.8x4.4mm, Pitch 0.65mm, IPC Low Density)
pins: 1 ~{OE} (in), 2 DVSS (power), 3 D0 (out), 4 D1 (out), 5 D2 (out), 6 D3 (out), 7 D4 (out), 8 D5 (out), 9 D6 (out), 10 D7 (out), 11 DVDD (power), 12 CLK (in), 13 DVDD (power), 14 AVDD (power), 15 AVDD (power), 16 VRTS, 17 VRT (in), 18 AVDD (power), 19 VIN (in), 20 AVSS (power), 21 AVSS (power), 22 VRBS, 23 VRB (in), 24 DVSS (power)

## ADC1175CIMTC/NOPB
designator U?
8-Bit, 20MHz, 60mW A/D Converter, 24-pin TSSOP, Pb-Free; PartNumber: ADC1175CIMTC/NOPB; Manufacturer: National Semiconductor; PackageTopMarking: NSUZXYTTE#*ADC1175*CIMTC; PowerWise: N; CompType: ADC IC; Published: 1-Mar-2010; DatasheetVersion: Jul-2009; PackageVersion: revE, Mar-2003; PackageReference: MTC24; Publisher: Altium Limited; PackageDescription: Molded TSSOP, Jedec, 7.8 x 4.4 x 0.9mm Body, 24 Lead, 0.65mm Pitch; Supplier 1: Digi-Key; Supplier Part Number 1: ADC1175CIMTC-ND; RoHS: Y; PinCount: 24; Code_JEDEC: MO-153-AD; ComponentLink1Description: ADC1175 Datasheet; ComponentLink1URL: http://www.national.com/ds/AD/ADC1175.pdf; ComponentLink2Description: ADC1175 Web Page; ComponentLink2URL: http://www.national.com/pf/AD/ADC1175.html; ComponentLink3Description: MTC24 Package Page; ComponentLink3URL: http://www.national.com/packaging/folders/mtc24.html
footprint MTC24_N (TSOP, 24-Leads, Body 7.8x4.4mm, Pitch 0.65mm, IPC Medium Density)
footprint MTC24_L (TSOP, 24-Leads, Body 7.8x4.4mm, Pitch 0.65mm, IPC High Density)
footprint MTC24_M (TSOP, 24-Leads, Body 7.8x4.4mm, Pitch 0.65mm, IPC Low Density)
pins: 1 ~{OE} (in), 2 DVSS (power), 3 D0 (out), 4 D1 (out), 5 D2 (out), 6 D3 (out), 7 D4 (out), 8 D5 (out), 9 D6 (out), 10 D7 (out), 11 DVDD (power), 12 CLK (in), 13 DVDD (power), 14 AVDD (power), 15 AVDD (power), 16 VRTS, 17 VRT (in), 18 AVDD (power), 19 VIN (in), 20 AVSS (power), 21 AVSS (power), 22 VRBS, 23 VRB (in), 24 DVSS (power)

## ADC1175CIMTCX/NOPB
designator U?
8-Bit, 20MHz, 60mW A/D Converter, 24-pin TSSOP, Pb-Free; PartNumber: ADC1175CIMTCX/NOPB; Manufacturer: National Semiconductor; PackageTopMarking: NSUZXYTTE#*ADC1175*CIMTC; PowerWise: N; CompType: ADC IC; Published: 1-Mar-2010; DatasheetVersion: Jul-2009; PackageVersion: revE, Mar-2003; PackageReference: MTC24; Publisher: Altium Limited; PackageDescription: Molded TSSOP, Jedec, 7.8 x 4.4 x 0.9mm Body, 24 Lead, 0.65mm Pitch; Supplier 1: Digi-Key; Supplier Part Number 1: ADC1175CIMTCX-ND; RoHS: Y; PinCount: 24; Code_JEDEC: MO-153-AD; ComponentLink1Description: ADC1175 Datasheet; ComponentLink1URL: http://www.national.com/ds/AD/ADC1175.pdf; ComponentLink2Description: ADC1175 Web Page; ComponentLink2URL: http://www.national.com/pf/AD/ADC1175.html; ComponentLink3Description: MTC24 Package Page; ComponentLink3URL: http://www.national.com/packaging/folders/mtc24.html
footprint MTC24_N (TSOP, 24-Leads, Body 7.8x4.4mm, Pitch 0.65mm, IPC Medium Density)
footprint MTC24_L (TSOP, 24-Leads, Body 7.8x4.4mm, Pitch 0.65mm, IPC High Density)
footprint MTC24_M (TSOP, 24-Leads, Body 7.8x4.4mm, Pitch 0.65mm, IPC Low Density)
pins: 1 ~{OE} (in), 2 DVSS (power), 3 D0 (out), 4 D1 (out), 5 D2 (out), 6 D3 (out), 7 D4 (out), 8 D5 (out), 9 D6 (out), 10 D7 (out), 11 DVDD (power), 12 CLK (in), 13 DVDD (power), 14 AVDD (power), 15 AVDD (power), 16 VRTS, 17 VRT (in), 18 AVDD (power), 19 VIN (in), 20 AVSS (power), 21 AVSS (power), 22 VRBS, 23 VRB (in), 24 DVSS (power)

## ADC08060CIMT
designator U?
8-Bit, 20 MSPS to 60 MSPS, 1.3 mW/MSPS A/D Converter with Internal Sample-and-Hold, 24-pin TSSOP; PartNumber: ADC08060CIMT; Manufacturer: National Semiconductor; PackageTopMarking: NSUZXYTTE#*ADC08060*CIMT; PowerWise: N; CompType: ADC IC; Published: 4-Dec-2008; DatasheetVersion: Oct-2000; PackageVersion: revE, Mar-2003; PackageReference: MTC24; Publisher: Altium Limited; PackageDescription: Molded TSSOP, Jedec, 7.8 x 4.4 x 0.9mm Body, 24 Lead, 0.65mm Pitch; RoHS: N; PinCount: 24; Code_JEDEC: MO-153-AD; ComponentLink1Description: ADC08060 Datasheet; ComponentLink1URL: http://www.national.com/ds/AD/ADC08060.pdf; ComponentLink2Description: ADC08060 Web Page; ComponentLink2URL: http://www.national.com/pf/AD/ADC08060.html; ComponentLink3Description: MTC24 Package Page; ComponentLink3URL: http://www.national.com/packaging/folders/mtc24.html
footprint MTC24_N (TSOP, 24-Leads, Body 7.8x4.4mm, Pitch 0.65mm, IPC Medium Density)
footprint MTC24_L (TSOP, 24-Leads, Body 7.8x4.4mm, Pitch 0.65mm, IPC High Density)
footprint MTC24_M (TSOP, 24-Leads, Body 7.8x4.4mm, Pitch 0.65mm, IPC Low Density)
pins: 1 VA (power), 2 AGND (power), 3 VRT (in), 4 VA (power), 5 AGND (power), 6 VIN (in), 7 VIN GND (power), 8 AGND (power), 9 VRM (in), 10 VRB (in), 11 AGND (power), 12 VA (power), 13 D7 (out), 14 D6 (out), 15 D5 (out), 16 D4 (out), 17 DR GND (power), 18 DRVD (power), 19 D3 (out), 20 D2 (out), 21 D1 (out), 22 D0 (out), 23 PD (in), 24 CLK (in)

## ADC08060CIMT/NOPB
designator U?
8-Bit, 20 MSPS to 60 MSPS, 1.3 mW/MSPS A/D Converter with Internal Sample-and-Hold, 24-pin TSSOP, Pb-Free; PartNumber: ADC08060CIMT/NOPB; Manufacturer: National Semiconductor; PackageTopMarking: NSUZXYTTE#*ADC08060*CIMT; PowerWise: N; CompType: ADC IC; Published: 1-Mar-2010; DatasheetVersion: Oct-2000; PackageVersion: revE, Mar-2003; PackageReference: MTC24; Publisher: Altium Limited; PackageDescription: Molded TSSOP, Jedec, 7.8 x 4.4 x 0.9mm Body, 24 Lead, 0.65mm Pitch; Supplier 1: Digi-Key; Supplier Part Number 1: ADC08060CIMT-ND; Supplier 2: Farnell; Supplier Part Number 2: 1673973; RoHS: Y; PinCount: 24; Code_JEDEC: MO-153-AD; ComponentLink1Description: ADC08060 Datasheet; ComponentLink1URL: http://www.national.com/ds/AD/ADC08060.pdf; ComponentLink2Description: ADC08060 Web Page; ComponentLink2URL: http://www.national.com/pf/AD/ADC08060.html; ComponentLink3Description: MTC24 Package Page; ComponentLink3URL: http://www.national.com/packaging/folders/mtc24.html
footprint MTC24_N (TSOP, 24-Leads, Body 7.8x4.4mm, Pitch 0.65mm, IPC Medium Density)
footprint MTC24_L (TSOP, 24-Leads, Body 7.8x4.4mm, Pitch 0.65mm, IPC High Density)
footprint MTC24_M (TSOP, 24-Leads, Body 7.8x4.4mm, Pitch 0.65mm, IPC Low Density)
pins: 1 VA (power), 2 AGND (power), 3 VRT (in), 4 VA (power), 5 AGND (power), 6 VIN (in), 7 VIN GND (power), 8 AGND (power), 9 VRM (in), 10 VRB (in), 11 AGND (power), 12 VA (power), 13 D7 (out), 14 D6 (out), 15 D5 (out), 16 D4 (out), 17 DR GND (power), 18 DRVD (power), 19 D3 (out), 20 D2 (out), 21 D1 (out), 22 D0 (out), 23 PD (in), 24 CLK (in)

## ADC08100CIMTC
designator U?
8-Bit, 20 MSPS to 100 MSPS, 1.3 mW/MSPS A/D Converter, 24-pin TSSOP; PartNumber: ADC08100CIMTC; Manufacturer: National Semiconductor; PackageTopMarking: NSUZXYTTE#*ADC08100*CIMTC; PowerWise: N; CompType: ADC IC; Published: 4-Dec-2008; DatasheetVersion: Jun-2000; PackageVersion: revE, Mar-2003; PackageReference: MTC24; Publisher: Altium Limited; PackageDescription: Molded TSSOP, Jedec, 7.8 x 4.4 x 0.9mm Body, 24 Lead, 0.65mm Pitch; Supplier 1: Farnell; Supplier Part Number 1: 8180679; RoHS: N; PinCount: 24; Code_JEDEC: MO-153-AD; ComponentLink1Description: ADC08100 Datasheet; ComponentLink1URL: http://www.national.com/ds/AD/ADC08100.pdf; ComponentLink2Description: ADC08100 Web Page; ComponentLink2URL: http://www.national.com/pf/AD/ADC08100.html; ComponentLink3Description: MTC24 Package Page; ComponentLink3URL: http://www.national.com/packaging/folders/mtc24.html
footprint MTC24_N (TSOP, 24-Leads, Body 7.8x4.4mm, Pitch 0.65mm, IPC Medium Density)
footprint MTC24_L (TSOP, 24-Leads, Body 7.8x4.4mm, Pitch 0.65mm, IPC High Density)
footprint MTC24_M (TSOP, 24-Leads, Body 7.8x4.4mm, Pitch 0.65mm, IPC Low Density)
pins: 1 VA (power), 2 AGND (power), 3 VRT (in), 4 VA (power), 5 AGND (power), 6 VIN (in), 7 VIN GND (power), 8 AGND (power), 9 VRM (in), 10 VRB (in), 11 AGND (power), 12 VA (power), 13 D7 (out), 14 D6 (out), 15 D5 (out), 16 D4 (out), 17 DR GND (power), 18 DRVD (power), 19 D3 (out), 20 D2 (out), 21 D1 (out), 22 D0 (out), 23 PD (in), 24 CLK (in)

## ADC08100CIMTC/NOPB
designator U?
8-Bit, 20 MSPS to 100 MSPS, 1.3 mW/Msps A/D Converter, 24-pin TSSOP, Pb-Free; PartNumber: ADC08100CIMTC/NOPB; Manufacturer: National Semiconductor; PackageTopMarking: NSUZXYTTE#*ADC08100*CIMTC; PowerWise: N; CompType: ADC IC; Published: 1-Mar-2010; DatasheetVersion: Jun-2000; PackageVersion: revE, Mar-2003; PackageReference: MTC24; Publisher: Altium Limited; PackageDescription: Molded TSSOP, Jedec, 7.8 x 4.4 x 0.9mm Body, 24 Lead, 0.65mm Pitch; Supplier 1: Digi-Key; Supplier Part Number 1: ADC08100CIMTC-ND; Supplier 2: Farnell; Supplier Part Number 2: 1559287; RoHS: Y; PinCount: 24; Code_JEDEC: MO-153-AD; ComponentLink1Description: ADC08100 Datasheet; ComponentLink1URL: http://www.national.com/ds/AD/ADC08100.pdf; ComponentLink2Description: ADC08100 Web Page; ComponentLink2URL: http://www.national.com/pf/AD/ADC08100.html; ComponentLink3Description: MTC24 Package Page; ComponentLink3URL: http://www.national.com/packaging/folders/mtc24.html
footprint MTC24_N (TSOP, 24-Leads, Body 7.8x4.4mm, Pitch 0.65mm, IPC Medium Density)
footprint MTC24_L (TSOP, 24-Leads, Body 7.8x4.4mm, Pitch 0.65mm, IPC High Density)
footprint MTC24_M (TSOP, 24-Leads, Body 7.8x4.4mm, Pitch 0.65mm, IPC Low Density)
pins: 1 VA (power), 2 AGND (power), 3 VRT (in), 4 VA (power), 5 AGND (power), 6 VIN (in), 7 VIN GND (power), 8 AGND (power), 9 VRM (in), 10 VRB (in), 11 AGND (power), 12 VA (power), 13 D7 (out), 14 D6 (out), 15 D5 (out), 16 D4 (out), 17 DR GND (power), 18 DRVD (power), 19 D3 (out), 20 D2 (out), 21 D1 (out), 22 D0 (out), 23 PD (in), 24 CLK (in)

## ADC08100CIMTCX/NOPB
designator U?
8-Bit, 20 MSPS to 100 MSPS, 1.3 mW/Msps A/D Converter, 24-pin TSSOP, Pb-Free; PartNumber: ADC08100CIMTCX/NOPB; Manufacturer: National Semiconductor; PackageTopMarking: NSUZXYTTE#*ADC08100*CIMTC; PowerWise: N; CompType: ADC IC; Published: 1-Mar-2010; DatasheetVersion: Jun-2000; PackageVersion: revE, Mar-2003; PackageReference: MTC24; Publisher: Altium Limited; PackageDescription: Molded TSSOP, Jedec, 7.8 x 4.4 x 0.9mm Body, 24 Lead, 0.65mm Pitch; Supplier 1: Digi-Key; Supplier Part Number 1: ADC08100CIMTCX-ND; RoHS: Y; PinCount: 24; Code_JEDEC: MO-153-AD; ComponentLink1Description: ADC08100 Datasheet; ComponentLink1URL: http://www.national.com/ds/AD/ADC08100.pdf; ComponentLink2Description: ADC08100 Web Page; ComponentLink2URL: http://www.national.com/pf/AD/ADC08100.html; ComponentLink3Description: MTC24 Package Page; ComponentLink3URL: http://www.national.com/packaging/folders/mtc24.html
footprint MTC24_N (TSOP, 24-Leads, Body 7.8x4.4mm, Pitch 0.65mm, IPC Medium Density)
footprint MTC24_L (TSOP, 24-Leads, Body 7.8x4.4mm, Pitch 0.65mm, IPC High Density)
footprint MTC24_M (TSOP, 24-Leads, Body 7.8x4.4mm, Pitch 0.65mm, IPC Low Density)
pins: 1 VA (power), 2 AGND (power), 3 VRT (in), 4 VA (power), 5 AGND (power), 6 VIN (in), 7 VIN GND (power), 8 AGND (power), 9 VRM (in), 10 VRB (in), 11 AGND (power), 12 VA (power), 13 D7 (out), 14 D6 (out), 15 D5 (out), 16 D4 (out), 17 DR GND (power), 18 DRVD (power), 19 D3 (out), 20 D2 (out), 21 D1 (out), 22 D0 (out), 23 PD (in), 24 CLK (in)

## ADC08200CIMT
designator U?
8-Bit, 20 MSPS to 200 MSPS, Low Power A/D Converter with Internal Sample-and-Hold, 24-pin TSSOP; PartNumber: ADC08200CIMT; Manufacturer: National Semiconductor; PackageTopMarking: NSUZXYTTE#*ADC08200*CIMT; PowerWise: N; CompType: ADC IC; Published: 4-Dec-2008; DatasheetVersion: Apr-2001; PackageVersion: revE, Mar-2003; PackageReference: MTC24; Publisher: Altium Limited; PackageDescription: Molded TSSOP, Jedec, 7.8 x 4.4 x 0.9mm Body, 24 Lead, 0.65mm Pitch; Supplier 1: Farnell; Supplier Part Number 1: 8206805; RoHS: N; PinCount: 24; Code_JEDEC: MO-153-AD; ComponentLink1Description: ADC08200 Datasheet; ComponentLink1URL: http://www.national.com/ds/AD/ADC08200.pdf; ComponentLink2Description: ADC08200 Web Page; ComponentLink2URL: http://www.national.com/pf/AD/ADC08200.html; ComponentLink3Description: MTC24 Package Page; ComponentLink3URL: http://www.national.com/packaging/folders/mtc24.html
footprint MTC24_N (TSOP, 24-Leads, Body 7.8x4.4mm, Pitch 0.65mm, IPC Medium Density)
footprint MTC24_L (TSOP, 24-Leads, Body 7.8x4.4mm, Pitch 0.65mm, IPC High Density)
footprint MTC24_M (TSOP, 24-Leads, Body 7.8x4.4mm, Pitch 0.65mm, IPC Low Density)
pins: 1 VA (power), 2 AGND (power), 3 VRT (in), 4 VA (power), 5 AGND (power), 6 VIN (in), 7 VIN GND (power), 8 AGND (power), 9 VRM (in), 10 VRB (in), 11 AGND (power), 12 VA (power), 13 D7 (out), 14 D6 (out), 15 D5 (out), 16 D4 (out), 17 DR GND (power), 18 VDR (power), 19 D3 (out), 20 D2 (out), 21 D1 (out), 22 D0 (out), 23 PD (in), 24 CLK (in)

## ADC08200CIMT/NOPB
designator U?
8-Bit, 20 MSPS to 200 MSPS, Low Power A/D Converter with Internal Sample-and-Hold, 24-pin TSSOP, Pb-Free; PartNumber: ADC08200CIMT/NOPB; Manufacturer: National Semiconductor; PackageTopMarking: NSUZXYTTE#*ADC08200*CIMT; PowerWise: N; CompType: ADC IC; Published: 1-Mar-2010; DatasheetVersion: Apr-2001; PackageVersion: revE, Mar-2003; PackageReference: MTC24; Publisher: Altium Limited; PackageDescription: Molded TSSOP, Jedec, 7.8 x 4.4 x 0.9mm Body, 24 Lead, 0.65mm Pitch; Supplier 1: Digi-Key; Supplier Part Number 1: ADC08200CIMT-ND; Supplier 2: Farnell; Supplier Part Number 2: 1693927; RoHS: Y; PinCount: 24; Code_JEDEC: MO-153-AD; ComponentLink1Description: ADC08200 Datasheet; ComponentLink1URL: http://www.national.com/ds/AD/ADC08200.pdf; ComponentLink2Description: ADC08200 Web Page; ComponentLink2URL: http://www.national.com/pf/AD/ADC08200.html; ComponentLink3Description: MTC24 Package Page; ComponentLink3URL: http://www.national.com/packaging/folders/mtc24.html
footprint MTC24_N (TSOP, 24-Leads, Body 7.8x4.4mm, Pitch 0.65mm, IPC Medium Density)
footprint MTC24_L (TSOP, 24-Leads, Body 7.8x4.4mm, Pitch 0.65mm, IPC High Density)
footprint MTC24_M (TSOP, 24-Leads, Body 7.8x4.4mm, Pitch 0.65mm, IPC Low Density)
pins: 1 VA (power), 2 AGND (power), 3 VRT (in), 4 VA (power), 5 AGND (power), 6 VIN (in), 7 VIN GND (power), 8 AGND (power), 9 VRM (in), 10 VRB (in), 11 AGND (power), 12 VA (power), 13 D7 (out), 14 D6 (out), 15 D5 (out), 16 D4 (out), 17 DR GND (power), 18 VDR (power), 19 D3 (out), 20 D2 (out), 21 D1 (out), 22 D0 (out), 23 PD (in), 24 CLK (in)

## ADC08200CIMTX
designator U?
8-Bit, 20 MSPS to 200 MSPS, Low Power A/D Converter with Internal Sample-and-Hold, 24-pin TSSOP; PartNumber: ADC08200CIMTX; Manufacturer: National Semiconductor; PackageTopMarking: NSUZXYTTE#*ADC08200*CIMT; PowerWise: N; CompType: ADC IC; Published: 1-Mar-2010; DatasheetVersion: Apr-2001; PackageVersion: revE, Mar-2003; PackageReference: MTC24; Publisher: Altium Limited; PackageDescription: Molded TSSOP, Jedec, 7.8 x 4.4 x 0.9mm Body, 24 Lead, 0.65mm Pitch; RoHS: N; PinCount: 24; Code_JEDEC: MO-153-AD; ComponentLink1Description: ADC08200 Datasheet; ComponentLink1URL: http://www.national.com/ds/AD/ADC08200.pdf; ComponentLink2Description: ADC08200 Web Page; ComponentLink2URL: http://www.national.com/pf/AD/ADC08200.html; ComponentLink3Description: MTC24 Package Page; ComponentLink3URL: http://www.national.com/packaging/folders/mtc24.html
footprint MTC24_N (TSOP, 24-Leads, Body 7.8x4.4mm, Pitch 0.65mm, IPC Medium Density)
footprint MTC24_L (TSOP, 24-Leads, Body 7.8x4.4mm, Pitch 0.65mm, IPC High Density)
footprint MTC24_M (TSOP, 24-Leads, Body 7.8x4.4mm, Pitch 0.65mm, IPC Low Density)
pins: 1 VA (power), 2 AGND (power), 3 VRT (in), 4 VA (power), 5 AGND (power), 6 VIN (in), 7 VIN GND (power), 8 AGND (power), 9 VRM (in), 10 VRB (in), 11 AGND (power), 12 VA (power), 13 D7 (out), 14 D6 (out), 15 D5 (out), 16 D4 (out), 17 DR GND (power), 18 VDR (power), 19 D3 (out), 20 D2 (out), 21 D1 (out), 22 D0 (out), 23 PD (in), 24 CLK (in)

## ADC08200CIMTX/NOPB
designator U?
8-Bit, 20 MSPS to 200 MSPS, Low Power A/D Converter with Internal Sample-and-Hold, 24-pin TSSOP, Pb-Free; PartNumber: ADC08200CIMTX/NOPB; Manufacturer: National Semiconductor; PackageTopMarking: NSUZXYTTE#*ADC08200*CIMT; PowerWise: N; CompType: ADC IC; Published: 1-Mar-2010; DatasheetVersion: Apr-2001; PackageVersion: revE, Mar-2003; PackageReference: MTC24; Publisher: Altium Limited; PackageDescription: Molded TSSOP, Jedec, 7.8 x 4.4 x 0.9mm Body, 24 Lead, 0.65mm Pitch; Supplier 1: Digi-Key; Supplier Part Number 1: ADC08200CIMTX-ND; RoHS: Y; PinCount: 24; Code_JEDEC: MO-153-AD; ComponentLink1Description: ADC08200 Datasheet; ComponentLink1URL: http://www.national.com/ds/AD/ADC08200.pdf; ComponentLink2Description: ADC08200 Web Page; ComponentLink2URL: http://www.national.com/pf/AD/ADC08200.html; ComponentLink3Description: MTC24 Package Page; ComponentLink3URL: http://www.national.com/packaging/folders/mtc24.html
footprint MTC24_N (TSOP, 24-Leads, Body 7.8x4.4mm, Pitch 0.65mm, IPC Medium Density)
footprint MTC24_L (TSOP, 24-Leads, Body 7.8x4.4mm, Pitch 0.65mm, IPC High Density)
footprint MTC24_M (TSOP, 24-Leads, Body 7.8x4.4mm, Pitch 0.65mm, IPC Low Density)
pins: 1 VA (power), 2 AGND (power), 3 VRT (in), 4 VA (power), 5 AGND (power), 6 VIN (in), 7 VIN GND (power), 8 AGND (power), 9 VRM (in), 10 VRB (in), 11 AGND (power), 12 VA (power), 13 D7 (out), 14 D6 (out), 15 D5 (out), 16 D4 (out), 17 DR GND (power), 18 VDR (power), 19 D3 (out), 20 D2 (out), 21 D1 (out), 22 D0 (out), 23 PD (in), 24 CLK (in)

## ADC08351CILQX
designator U?
8-Bit, 42 MSPS, 40mW A/D Converter, 24-pin LLP; PartNumber: ADC08351CILQX; Manufacturer: National Semiconductor; PackageTopMarking: NS*UZXYTT*08351; PowerWise: N; CompType: ADC IC; Published: 1-Mar-2010; DatasheetVersion: Oct-1998; PackageVersion: revB, Sep-2003; PackageReference: LQA24A; Publisher: Altium Limited; PackageDescription: LLP, Plastic, Quad, 5 x 4 x 0.8mm Body, 24 Lead, 0.5mm Pitch; RoHS: N; PinCount: 24; ComponentLink1Description: ADC08351 Datasheet; ComponentLink1URL: http://www.national.com/ds/AD/ADC08351.pdf; ComponentLink2Description: ADC08351 Web Page; ComponentLink2URL: http://www.national.com/pf/AD/ADC08351.html; ComponentLink3Description: LQA24A Package Page; ComponentLink3URL: http://www.national.com/packaging/folders/lqa24a.html
footprint LQA24A (PQFN, 24-Leads, Body 4x5mm, Pitch 0.5mm, NSC Recommended)
pins: 1 D0 (out), 2 D1 (out), 3 D2 (out), 4 D3 (out), 5 D4 (out), 6 D5 (out), 7 D6 (out), 8 D7 (out), 9 NC, 10 VD (power), 11 CLK (in), 12 VD (power), 13 NC, 14 VREF (power), 15 PD (in), 16 VA (power), 17 VIN (in), 18 AGND (power), 19 AGND (power), 20 NC